# Altium footprint library TSOT23-6.PcbLib: 1 footprints
Each footprint in its own frame and in the unit in brackets; x right, y up, seen from the top. Pads: shape width x height; smd on the part's side, far side on the other; paste and mask are expansions set on the pad; w line width, h text height; cw(c..) or ccw(c..) is an arc to the next point about the centre after c.
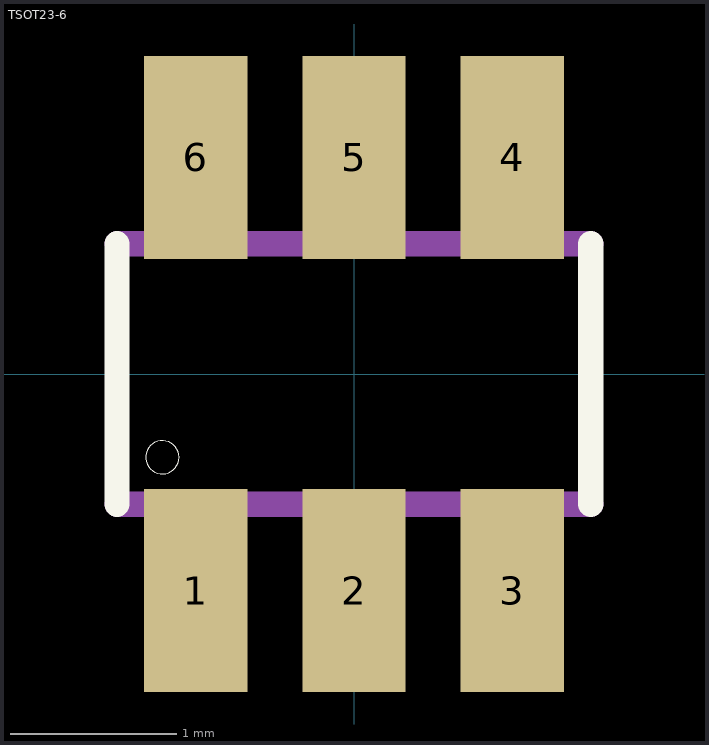
[diagram p0: the footprint, top view; thin cyan lines are the x and y axes]

## TSOT23-6 [mm]
pads (6):
  rect 0.62x1.22 smd: 1(-0.95,-1.3) 2(0,-1.3) 3(0.95,-1.3) 4(0.95,1.3) 5(0,1.3) 6(-0.95,1.3)
Top Overlay:
  circle w0: c-1.15,-0.5 r0.1
  lines w0.152: -1.423,-0.781 -1.423,0.781 ; 1.422,-0.781 1.422,0.781
Mechanical 13:
  region: -0.725,0.8 -1.175,0.8 -1.175,1.4 -0.725,1.4
  region: 0.225,0.8 -0.225,0.8 -0.225,1.4 0.225,1.4
  region: 1.175,0.8 0.725,0.8 0.725,1.4 1.175,1.4
  region: 1.175,-1.4 0.725,-1.4 0.725,-0.8 1.175,-0.8
  region: 0.225,-1.4 -0.225,-1.4 -0.225,-0.8 0.225,-0.8
  region: -0.725,-1.4 -1.175,-1.4 -1.175,-0.8 -0.725,-0.8
  lines w0.152: -1.423,-0.781 1.422,-0.781 ; -1.423,0.781 1.422,0.781
3D body "SOIC_05WU-7_DIO.step": height 0.99, standoff 0, extent -1.499,-1.397 1.499,1.397